# EAGLE library part CORTEX-DEBUG (library debug-connectors)
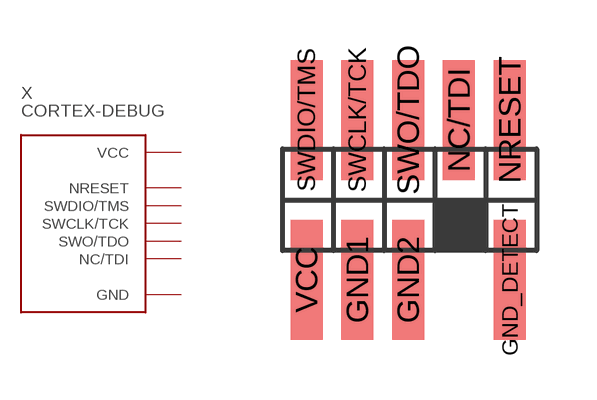
[diagram p0: symbol with the pads of CORTEX-DEBUG; footprint CORTEX-DEBUG]

Designator prefix X

## CORTEX-DEBUG  [CORTEX-DEBUG]
GND1  GND
GND2  GND
GND_DETECT  GND
NC/TDI  NC/TDI
NRESET  NRESET
SWCLK/TCK  SWCLK/TCK
SWDIO/TMS  SWDIO/TMS
SWO/TDO  SWO/TDO
VCC  VCC

## Footprint CORTEX-DEBUG (pad centres in mm)
smd 0.8 x 3: GND1 -1.27,-2; GND2 0,-2; GND_DETECT 2.54,-2; NC/TDI 1.27,2; NRESET 2.54,2; SWCLK/TCK -1.27,2; SWDIO/TMS -2.54,2; SWO/TDO 0,2; VCC -2.54,-2